# Altium schematic symbol library Bat.SchLib: 2 symbols
Pins are listed as number, name and electrical type; pins without a type are passive.

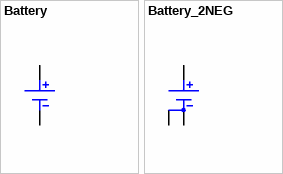
[diagram p0: symbols Battery to Battery_2NEG]

## Battery
designator BAT?
pins: 1 +, 2 -

## Battery_2NEG
designator BAT?
pins: 1 +, 2 -, 3 -